# Altium schematic symbol library WCH-CH643W.SchLib: 1 symbol
Pins are listed as number, name and electrical type; pins without a type are passive.

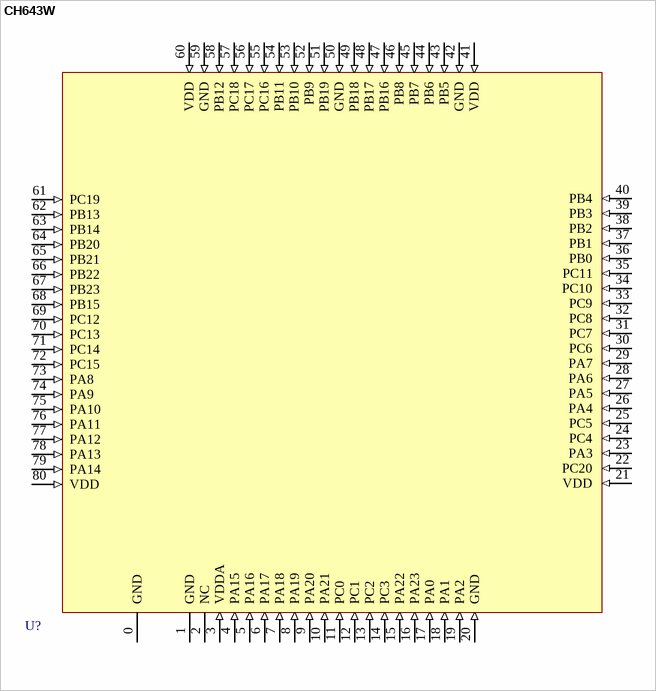
[diagram p0: symbol CH643W]

## CH643W
designator U?
pins: 0 GND, 1 GND, 2 NC, 3 VDDA (in), 4 PA15 (in), 5 PA16 (in), 6 PA17 (in), 7 PA18 (in), 8 PA19 (in), 9 PA20 (in), 10 PA21 (in), 11 PC0 (in), 12 PC1 (in), 13 PC2 (in), 14 PC3 (in), 15 PA22 (in), 16 PA23 (in), 17 PA0 (in), 18 PA1 (in), 19 PA2 (in), 20 GND (in), 21 VDD (in), 22 PC20 (in), 23 PA3 (in), 24 PC4 (in), 25 PC5 (in), 26 PA4 (in), 27 PA5 (in), 28 PA6 (in), 29 PA7 (in), 30 PC6 (in), 31 PC7 (in), 32 PC8 (in), 33 PC9 (in), 34 PC10 (in), 35 PC11 (in), 36 PB0 (in), 37 PB1 (in), 38 PB2 (in), 39 PB3 (in), 40 PB4 (in), 41 VDD (in), 42 GND (in), 43 PB5 (in), 44 PB6 (in), 45 PB7 (in), 46 PB8 (in), 47 PB16 (in), 48 PB17 (in), 49 PB18 (in), 50 GND (in), 51 PB19 (in), 52 PB9 (in), 53 PB10 (in), 54 PB11 (in), 55 PC16 (in), 56 PC17 (in), 57 PC18 (in), 58 PB12 (in), 59 GND (in), 60 VDD (in), 61 PC19 (in), 62 PB13 (in), 63 PB14 (in), 64 PB20 (in), 65 PB21 (in), 66 PB22 (in), 67 PB23 (in), 68 PB15 (in), 69 PC12 (in), 70 PC13 (in), 71 PC14 (in), 72 PC15 (in), 73 PA8 (in), 74 PA9 (in), 75 PA10 (in), 76 PA11 (in), 77 PA12 (in), 78 PA13 (in), 79 PA14 (in), 80 VDD (in)